# EAGLE library part HFJ11-2450E (library Mechanical)
Halo Electronics HFJ11-2450E Single Port FastJack w/LEDs
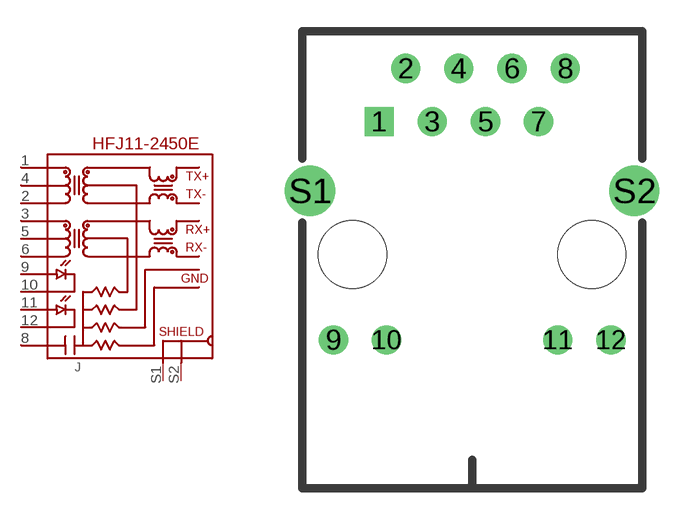
[diagram p50: symbol with the pads of HFJ11-W/LED; footprint HFJ11-W/LED]

Designator prefix J

## HFJ11-2450E-LS  [HFJ11-W/LED]
1  P1  pas
2  P2  pas
3  P3  pas
4  P4  pas
5  P5  pas
6  P6  pas
8  P8  pas
9  P9  pas
10  P10  pas
11  P11  pas
12  P12  pas
S1  S1  pas
S2  S2  pas

## Footprint HFJ11-W/LED (pad centres in mm)
Halo single port FastJack w/LEDs
drill 0.889 square: 1 -4.445,6.35
drill 0.889: 2 -3.175,8.89; 3 -1.905,6.35; 4 -0.635,8.89; 5 0.635,6.35; 6 1.905,8.89; 7 3.175,6.35; 8 4.445,8.89; 9 -6.629,-4.089; 10 -4.089,-4.089; 11 4.089,-4.089; 12 6.629,-4.089
drill 1.6: S1 -7.747,3.048; S2 7.747,3.048
hole 3.251 at -5.715,0
hole 3.251 at 5.715,0